# Altium schematic symbol library Header2Pin.SchLib: 1 symbol
Pins are listed as number, name and electrical type; pins without a type are passive.

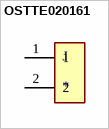
[diagram p0: symbol OSTTE020161]

## OSTTE020161
designator J
Fio de 2 posiÃ§Ãµes para embarcar na horizontal do bloco de terminais com furo passante da placa 0,138 _3,50 mm_; MP: OSTTE020161; MF: On Shore; Value: *; SnapEDA_Link: https://www.snapeda.com/parts/OSTTE020161/On%20Shore%20Technology%20Inc./view-part/249314/?ref=snap; Availability: Unavailable; Package: None; Price: None
footprint OST_OSTTE020161
pins: 1, 2